# EAGLE library part ENC28J60-ML (library Microchip)
Ethernet Controller with SPI Interface
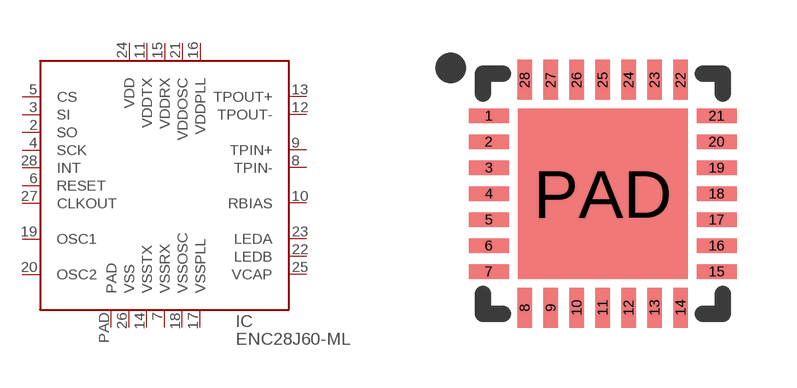
[diagram p24: symbol with the pads of QFN28-ML; footprint QFN28-ML]

Designator prefix IC

## ENC28J60-ML  [QFN28-ML]
2  SO
3  SI
4  SCK
5  CS
6  RESET
7  VSSRX
8  TPIN-
9  TPIN+
10  RBIAS
11  VDDTX
12  TPOUT-
13  TPOUT+
14  VSSTX
15  VDDRX
16  VDDPLL
17  VSSPLL
18  VSSOSC
19  OSC1
20  OSC2
21  VDDOSC
22  LEDB
23  LEDA
24  VDD
25  VCAP
26  VSS
27  CLKOUT
28  INT
PAD  PAD

## Footprint QFN28-ML (pad centres in mm)
28-Lead Plastic Quad Flat, No Lead Package (ML) - 6x6 mm Body (QFN)
smd 1 x 0.37: 1 -2.85,1.95; 2 -2.85,1.3; 3 -2.85,0.65; 4 -2.85,0; 5 -2.85,-0.65; 6 -2.85,-1.3; 7 -2.85,-1.95; 15 2.85,-1.95; 16 2.85,-1.3; 17 2.85,-0.65; 18 2.85,0; 19 2.85,0.65; 20 2.85,1.3; 21 2.85,1.95
smd 0.37 x 1: 8 -1.95,-2.85; 9 -1.3,-2.85; 10 -0.65,-2.85; 11 0,-2.85; 12 0.65,-2.85; 13 1.3,-2.85; 14 1.95,-2.85; 22 1.95,2.85; 23 1.3,2.85; 24 0.65,2.85; 25 0,2.85; 26 -0.65,2.85; 27 -1.3,2.85; 28 -1.95,2.85
smd 4.25 x 4.25: PAD 0,0